# EAGLE library part DF13A-40DP (library auv)
DF13-40DP Double row, 1.25mm Pitch Miniature Crimping Connector.
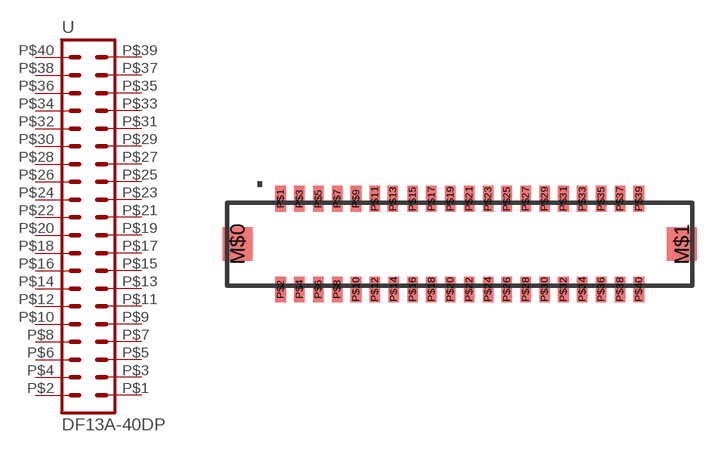
[diagram p47: symbol with the pads of DF13A-40DP-1.25V; footprint DF13A-40DP-1.25V]

Designator prefix -

## DF13A-40DPDP-1.25V  [DF13A-40DP-1.25V]
P$1  1  pas
P$2  2  pas
P$3  3  pas
P$4  4  pas
P$5  5  pas
P$6  6  pas
P$7  7  pas
P$8  8  pas
P$9  9  pas
P$10  10  pas
P$11  11  pas
P$12  12  pas
P$13  13  pas
P$14  14  pas
P$15  15  pas
P$16  16  pas
P$17  17  pas
P$18  18  pas
P$19  19  pas
P$20  20  pas
P$21  21  pas
P$22  22  pas
P$23  23  pas
P$24  24  pas
P$25  25  pas
P$26  26  pas
P$27  27  pas
P$28  28  pas
P$29  29  pas
P$30  30  pas
P$31  31  pas
P$32  32  pas
P$33  33  pas
P$34  34  pas
P$35  35  pas
P$36  36  pas
P$37  37  pas
P$38  38  pas
P$39  39  pas
P$40  40  pas

## Footprint DF13A-40DP-1.25V (pad centres in mm)
Double Row Straight Pin Header (SMT)
smd 2 x 2.2: M$0 -14.725,0; M$1 14.725,0
smd 0.7 x 1.7: P$1 -11.875,3; P$2 -11.875,-3; P$3 -10.625,3; P$4 -10.625,-3; P$5 -9.375,3; P$6 -9.375,-3; P$7 -8.125,3; P$8 -8.125,-3; P$9 -6.875,3; P$10 -6.875,-3; P$11 -5.625,3; P$12 -5.625,-3; P$13 -4.425,3; P$14 -4.375,-3; P$15 -3.125,3; P$16 -3.125,-3; P$17 -1.875,3; P$18 -1.875,-3; P$19 -0.625,3; P$20 -0.625,-3; P$21 0.625,3; P$22 0.625,-3; P$23 1.875,3; P$24 1.875,-3; P$25 3.125,3; P$26 3.125,-3; P$27 4.375,3; P$28 4.375,-3; P$29 5.625,3; P$30 5.625,-3; P$31 6.875,3; P$32 6.875,-3; P$33 8.125,3; P$34 8.125,-3; P$35 9.375,3; P$36 9.375,-3; P$37 10.625,3; P$38 10.625,-3; P$39 11.875,3; P$40 11.875,-3